# EAGLE library part TL074_PW_14 (library SensorCape)
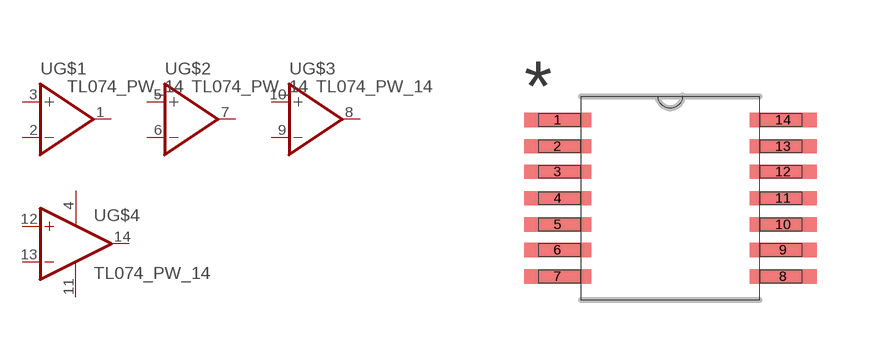
[diagram p13: symbol with the pads of PW14; footprint PW14]

Designator prefix U; gates G$1=OPAMP G$2=OPAMP G$3=OPAMP G$4=OPAMP+-

## TL074_PW_14  [PW14]
1  G$1:OUT  out
2  G$1:-IN  in
3  G$1:+IN  in
4  G$4:V+  pwr
5  G$2:+IN  in
6  G$2:-IN  in
7  G$2:OUT  out
8  G$3:OUT  out
9  G$3:-IN  in
10  G$3:+IN  in
11  G$4:V-  pwr
12  G$4:+IN  in
13  G$4:-IN  in
14  G$4:OUT  out

## Footprint PW14 (pad centres in mm)
smd 1.676 x 0.356: 1 -2.819,1.956; 2 -2.819,1.295; 3 -2.819,0.66; 4 -2.819,0; 5 -2.819,-0.66; 6 -2.819,-1.295; 7 -2.819,-1.956; 8 2.819,-1.956; 9 2.819,-1.295; 10 2.819,-0.66; 11 2.819,0; 12 2.819,0.66; 13 2.819,1.295; 14 2.819,1.956